# Altium schematic symbol library CC1206KKX7RDBB102.SchLib: 1 symbol
Pins are listed as number, name and electrical type; pins without a type are passive.

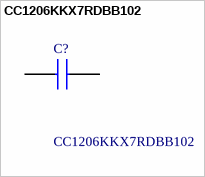
[diagram p0: symbol CC1206KKX7RDBB102]

## CC1206KKX7RDBB102
designator C?
YAGEO - CC1206KKX7RDBB102 - SMD Multilayer Ceramic Capacitor, 1000 pF, 2 kV, 1206 [3216 Metric], +/- 10%, X7R, CC Series; Manufacturer_Name: Yageo Group; Geometry.Height: 1.45mm; Mouser Part Number: 603-CC206KKX7RDBB102; Mouser Price/Stock: https://www.mouser.co.uk/ProductDetail/YAGEO/CC1206KKX7RDBB102?qs=vTakOoo5QyK%2FBV1e3XHXiQ%3D%3D; Manufacturer_Part_Number: CC1206KKX7RDBB102; Datasheet Link: https://www.yageo.com/upload/media/product/productsearch/datasheet/mlcc/UPY-NP0X7R_HV_500V-to-3KV_15.pdf
footprint CAPC3216X145N
pins: 1, 2